# Altium footprint library CAP.PcbLib: 17 footprints (part 1 of 2)
Each footprint in its own frame and in the unit in brackets; x right, y up, seen from the top. Pads: shape width x height; smd on the part's side, far side on the other; paste and mask are expansions set on the pad; w line width, h text height; cw(c..) or ccw(c..) is an arc to the next point about the centre after c.
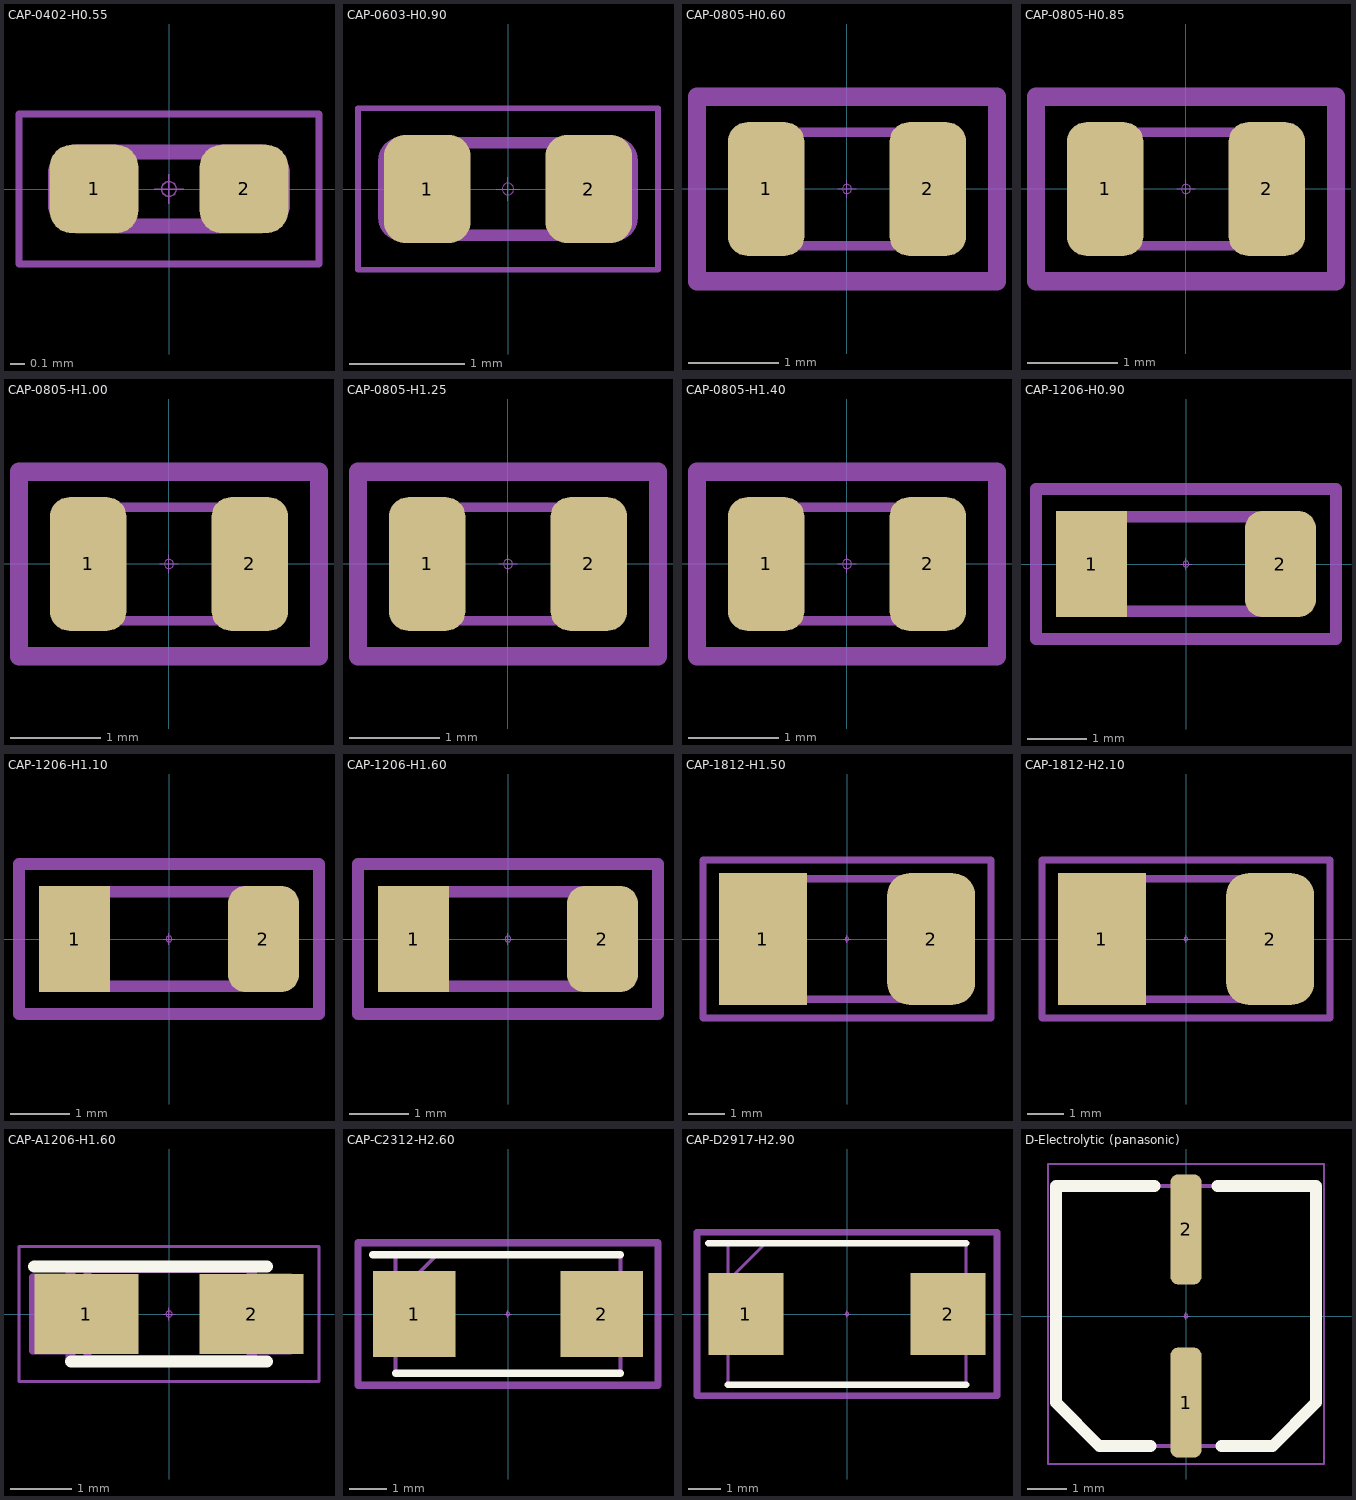
[diagram p0: the footprints below, top view; thin cyan lines are the x and y axes]

## CAP-0402-H0.55 [mm]
height 0.55
pads (2):
  rrect50% 0.6x0.6 smd: 1(-0.508,0) 2(0.508,0)
Top Assembly:
  lines w0.1: -0.5,-0.25 -0.62,-0.25 cw(c-0.62,-0.1) -0.77,-0.1 -0.77,0.1 cw(c-0.62,0.1) -0.62,0.25 -0.5,0.25 ; -0.5,-0.25 -0.5,0.25 ; -0.5,-0.25 0.5,-0.25 ; -0.5,0.25 0.5,0.25 ; 0.5,-0.25 0.62,-0.25 ccw(c0.62,-0.1) 0.77,-0.1 0.77,0.1 ccw(c0.62,0.1) 0.62,0.25 0.5,0.25 ; 0.5,-0.25 0.5,0.25
Top Component Outline:
  lines w0.05: -1.016,-0.508 1.016,-0.508 1.016,0.508 -1.016,0.508 -1.016,-0.508
Top Component Center:
  circle w0.01: c0,0 r0.05
  lines w0.01: -0.1,0 0.1,0 ; 0,-0.1 0,0.1
3D body "CAP-0402-H0.55.stp": height 0.55, standoff 0, extent -0.68,-0.25 0.68,0.25

## CAP-0603-H0.90 [mm]
height 0.9
pads (2):
  rrect50% 0.75x0.94 smd: 1(-0.7,0) 2(0.7,0)
Top Assembly:
  lines w0.1: -0.8,-0.4 -0.8,0.4 ; -0.8,-0.4 0.8,-0.4 ; -0.8,-0.4 -0.925,-0.4 cw(c-0.925,-0.25) -1.075,-0.25 -1.075,0.25 cw(c-0.925,0.25) -0.925,0.4 -0.8,0.4 ; -0.8,0.4 0.8,0.4 ; 0.8,-0.4 0.8,0.4 ; 0.8,-0.4 0.925,-0.4 ccw(c0.925,-0.25) 1.075,-0.25 1.075,0.25 ccw(c0.925,0.25) 0.925,0.4 0.8,0.4
Top Component Outline:
  lines w0.05: -1.3,-0.7 -1.3,0.7 1.3,0.7 1.3,-0.7 -1.3,-0.7
Top Component Center:
  circle w0.01: c0,0 r0.05
  lines w0.01: -0.1,0 0.1,0 ; 0,-0.1 0,0.1
3D body "CAP-0603-H0.9.stp": height 0.9, standoff 0, extent -1.05,-0.4 1.05,0.4

## CAP-0805-H0.60 [mm] "Yageo"
height 0.6
pads (2):
  rrect50% 0.84x1.47 smd: 1(-0.89,0) 2(0.89,0)
Top Assembly:
  lines w0.1: -1,-0.625 -1,0.625 1,0.625 1,-0.625 -1,-0.625
Top Component Outline:
  lines w0.2: -1.651,-1.016 1.651,-1.016 1.651,1.016 -1.651,1.016 -1.651,-1.016
Top Component Center:
  circle w0.01: c0,0 r0.05
  lines w0.01: -0.1,0 0.1,0 ; 0,-0.1 0,0.1
3D body "CAP-0805-H0.6.stp": height 0.6, standoff 0, extent -1.23,-0.625 1.23,0.625

## CAP-0805-H0.85 [mm] "Yageo"
height 0.85
pads (2):
  rrect50% 0.84x1.47 smd: 1(-0.89,0) 2(0.89,0)
Top Assembly:
  lines w0.1: -1,-0.625 -1,0.625 1,0.625 1,-0.625 -1,-0.625
Top Component Outline:
  lines w0.2: -1.651,-1.016 -1.651,1.016 1.651,1.016 1.651,-1.016 -1.651,-1.016
Top Component Center:
  circle w0.01: c0,0 r0.05
  lines w0.01: -0.1,0 0.1,0 ; 0,-0.1 0,0.1
3D body "CAP-0805-H0.85.stp": height 0.85, standoff 0, extent -1.23,-0.625 1.23,0.625

## CAP-0805-H1.00 [mm] "Yageo"
height 1
pads (2):
  rrect50% 0.84x1.47 smd: 1(-0.89,0) 2(0.89,0)
Top Assembly:
  lines w0.1: -1,-0.625 -1,0.625 1,0.625 1,-0.625 -1,-0.625
Top Component Outline:
  lines w0.2: -1.651,-1.016 -1.651,1.016 1.651,1.016 1.651,-1.016 -1.651,-1.016
Top Component Center:
  circle w0.01: c0,0 r0.05
  lines w0.01: -0.1,0 0.1,0 ; 0,-0.1 0,0.1
3D body "CAP-0805-H1.00.stp": height 1, standoff 0, extent -1.23,-0.625 1.23,0.625

## CAP-0805-H1.25 [mm] "Yageo"
height 1.25
pads (2):
  rrect50% 0.84x1.47 smd: 1(-0.89,0) 2(0.89,0)
Top Assembly:
  lines w0.1: -1,-0.625 1,-0.625 1,0.625 -1,0.625 -1,-0.625
Top Component Outline:
  lines w0.2: -1.651,-1.016 1.651,-1.016 1.651,1.016 -1.651,1.016 -1.651,-1.016
Top Component Center:
  circle w0.01: c0,0 r0.05
  lines w0.01: -0.1,0 0.1,0 ; 0,-0.1 0,0.1
3D body "CAP-0805-H1.25.stp": height 1.25, standoff 0, extent -1.23,-0.625 1.23,0.625

## CAP-0805-H1.40 [mm] "Yageo"
height 1.4
pads (2):
  rrect50% 0.84x1.47 smd: 1(-0.89,0) 2(0.89,0)
Top Assembly:
  lines w0.1: -1,-0.625 -1,0.625 1,0.625 1,-0.625 -1,-0.625
Top Component Outline:
  lines w0.2: -1.651,-1.016 -1.651,1.016 1.651,1.016 1.651,-1.016 -1.651,-1.016
Top Component Center:
  circle w0.01: c0,0 r0.05
  lines w0.01: -0.1,0 0.1,0 ; 0,-0.1 0,0.1
3D body "CAP-0805-H1.40.stp": height 1.4, standoff 0, extent -1.23,-0.625 1.23,0.625

## CAP-1206-H0.90 [mm]
height 0.9
pads (2):
  rect 1.2x1.8 smd: 1(-1.6,0)
  rrect50% 1.2x1.8 smd: 2(1.6,0)
Top Assembly:
  lines w0.2: -1.6,-0.8 1.6,-0.8 1.6,0.8 -1.6,0.8 -1.6,-0.8
Top Component Outline:
  lines w0.2: -2.54,-1.27 2.54,-1.27 2.54,1.27 -2.54,1.27 -2.54,-1.27
Top Component Center:
  circle w0.01: c0,0 r0.05
  lines w0.01: -0.1,0 0.1,0 ; 0,-0.1 0,0.1
3D body "CAP-1206-H0.90.stp": height 0.9, standoff 0, extent -2.125,-0.8 2.075,0.8

## CAP-1206-H1.10 [mm]
height 1.1
pads (2):
  rect 1.2x1.8 smd: 1(-1.6,0)
  rrect50% 1.2x1.8 smd: 2(1.6,0)
Top Assembly:
  lines w0.2: -1.6,-0.8 -1.6,0.8 1.6,0.8 1.6,-0.8 -1.6,-0.8
Top Component Outline:
  lines w0.2: -2.54,-1.27 2.54,-1.27 2.54,1.27 -2.54,1.27 -2.54,-1.27
Top Component Center:
  circle w0.01: c0,0 r0.05
  lines w0.01: -0.1,0 0.1,0 ; 0,-0.1 0,0.1
3D body "CAP-1206-H1.10.stp": height 1.1, standoff 0, extent -2.125,-0.787 2.075,0.813

## CAP-1206-H1.60 [mm]
height 1.6
pads (2):
  rect 1.2x1.8 smd: 1(-1.6,0)
  rrect50% 1.2x1.8 smd: 2(1.6,0)
Top Assembly:
  lines w0.2: -1.6,-0.8 -1.6,0.8 1.6,0.8 1.6,-0.8 -1.6,-0.8
Top Component Outline:
  lines w0.2: -2.54,-1.27 -2.54,1.27 2.54,1.27 2.54,-1.27 -2.54,-1.27
Top Component Center:
  circle w0.01: c0,0 r0.05
  lines w0.01: -0.1,0 0.1,0 ; 0,-0.1 0,0.1
3D body: height 1.6, standoff 0, extent -1,-0.8 1,0.8
3D body: height 1.6, standoff 0, extent 1,-0.8 1.6,0.8
3D body: height 1.6, standoff 0, extent -1.6,-0.8 -1,0.8

## CAP-1812-H1.50 [mm]
height 1.5
pads (2):
  rect 2.4x3.6 smd: 1(-2.3,0)
  rrect50% 2.4x3.6 smd: 2(2.3,0)
Top Assembly:
  lines w0.2: -2.4,-1.65 2.4,-1.65 2.4,1.65 -2.4,1.65 -2.4,-1.65
Top Component Outline:
  lines w0.2: -3.937,-2.159 3.937,-2.159 3.937,2.159 -3.937,2.159 -3.937,-2.159
Top Component Center:
  circle w0.01: c0,0 r0.05
  lines w0.01: -0.1,0 0.1,0 ; 0,-0.1 0,0.1
3D body "CAP-1812-H1.50.stp": height 1.5, standoff 0, extent -3.251,-1.649 3.149,1.651

## CAP-1812-H2.10 [mm]
height 2.1
pads (2):
  rect 2.4x3.6 smd: 1(-2.3,0)
  rrect50% 2.4x3.6 smd: 2(2.3,0)
Top Assembly:
  lines w0.2: -2.4,-1.65 -2.4,1.65 2.4,1.65 2.4,-1.65 -2.4,-1.65
Top Component Outline:
  lines w0.2: -3.937,-2.159 3.937,-2.159 3.937,2.159 -3.937,2.159 -3.937,-2.159
Top Component Center:
  circle w0.01: c0,0 r0.05
  lines w0.01: -0.1,0 0.1,0 ; 0,-0.1 0,0.1
3D body "CAP-1812-H2.10.stp": height 2.1, standoff 0, extent -3.302,-1.649 3.098,1.651

## CAP-A1206-H1.60 [mm]
height 1.6
pads (2):
  rect 1.7x1.3 smd: 1(-1.35,0) 2(1.35,0)
Top Overlay:
  lines w0.2: -2.2,0.775 1.6,0.775 ; -1.6,-0.775 1.6,-0.775
Top Assembly:
  lines w0.127: -1.625,-0.6 -1.725,-0.6 ; -1.625,0.6 -1.725,0.6 ; 1.375,-0.6 1.475,-0.6 ; 1.375,0.6 1.475,0.6 ; -1.725,-0.6 -2.225,-0.6 -2.225,0.6 -1.725,0.6 ; -1.725,-0.6 -1.725,0.6 ; -1.725,-0.6 -1.725,0.6 ; -1.625,-0.775 1.375,-0.775 ; -1.625,-0.775 -1.625,0.775 ; -1.625,-0.775 -1.594,-0.744 ; -1.625,0.775 1.375,0.775 ; -1.625,0.775 -1.594,0.744 ; -1.594,-0.744 -1.594,0.744 ; -1.594,-0.744 -1.332,-0.733 ; -1.594,0.744 -1.332,0.733 ; -1.332,-0.733 1.332,-0.733 ; -1.332,-0.733 -1.332,0.733 ; -1.332,0.733 1.332,0.733 ; 1.332,-0.733 1.375,-0.775 ; 1.332,-0.733 1.332,0.733 ; 1.332,0.733 1.375,0.775 ; 1.375,-0.775 1.375,0.775 ; 1.475,-0.6 1.975,-0.6 1.975,0.6 1.475,0.6 ; 1.475,-0.6 1.475,0.6 ; 1.475,-0.6 1.475,0.6
Top Component Outline:
  lines w0.05: -2.45,-1.1 2.45,-1.1 2.45,1.1 -2.45,1.1 -2.45,-1.1
Top Component Center:
  circle w0.01: c0,0 r0.05
  lines w0.01: -0.1,0 0.1,0 ; 0,-0.1 0,0.1
3D body "CAP-A1206-H1.6.stp": height 1.81, standoff 0, extent -2.1,-0.775 2.1,0.775

## CAP-C2312-H2.60 [mm]
height 2.6
pads (2):
  rect 2.2x2.3 smd: 1(-2.5,0) 2(2.5,0)
Top Overlay:
  lines w0.2: -3.6,1.575 3,1.575 ; -3,-1.575 3,-1.575
Top Assembly:
  lines w0.1: -3,0.475 -1.9,1.575 ; -3,-1.575 -3,1.575 3,1.575 3,-1.575 -3,-1.575
Top Component Outline:
  lines w0.2: -4,-1.9 -4,1.9 4,1.9 4,-1.9 -4,-1.9
Top Component Center:
  circle w0.01: c0,0 r0.05
  lines w0.01: -0.1,0 0.1,0 ; 0,-0.1 0,0.1
3D body "CAP-C2312-H2.6.stp": height 2.8, standoff 0, extent -3.5,-1.575 3.5,1.575

## CAP-D2917-H2.90 [mm]
height 2.9
pads (2):
  rect 2.3x2.5 smd: 1(-3.1,0) 2(3.1,0)
Top Overlay:
  lines w0.2: -4.25,2.175 3.65,2.175 ; -3.65,-2.175 3.65,-2.175
Top Assembly:
  lines w0.1: -3.65,1.025 -2.5,2.175 ; -3.65,-2.175 3.65,-2.175 3.65,2.175 -3.65,2.175 -3.65,-2.175
Top Component Outline:
  lines w0.2: -4.6,-2.5 4.6,-2.5 4.6,2.5 -4.6,2.5 -4.6,-2.5
Top Component Center:
  circle w0.01: c0,0 r0.05
  lines w0.01: -0.1,0 0.1,0 ; 0,-0.1 0,0.1
3D body "CAP-D2917-H2.9.stp": height 3.15, standoff 0, extent -4.15,-2.175 4.15,2.175

## D-Electrolytic (panasonic) [mm]
pads (2):
  rrect50% 0.8x2.8 smd: 1(0,-2.2) 2(0,2.2)
Top Overlay:
  lines w0.3: -3.3,3.3 -0.8,3.3 ; -3.3,3.302 -3.3,-2.2 -2.198,-3.302 ; -2.2,-3.3 -0.9,-3.3 ; 0.8,3.3 3.3,3.3 3.3,-2.2 2.198,-3.302 ; 0.9,-3.3 2.2,-3.3
Top Assembly:
  lines w0.1: -3.3,-2.2 -3.3,3.302 3.3,3.302 3.3,-2.2 2.198,-3.302 -2.198,-3.302 -3.3,-2.2
Top Component Outline:
  circle w0.01: c0,0 r0.05
  lines w0.01: -0.1,0 0.1,0 ; 0,-0.1 0,0.1
  lines w0.05: -3.5,-3.759 3.5,-3.759 3.5,3.861 -3.5,3.861 -3.5,-3.759
3D body "D-Electrolytic H5.8.stp": height 5.5, standoff -0.3, extent -3.3,-3.5 3.3,3.5